# Altium footprint library SMD-POL.PcbLib: 1 footprints
Each footprint in its own frame and in the unit in brackets; x right, y up, seen from the top. Pads: shape width x height; smd on the part's side, far side on the other; paste and mask are expansions set on the pad; w line width, h text height; cw(c..) or ccw(c..) is an arc to the next point about the centre after c.
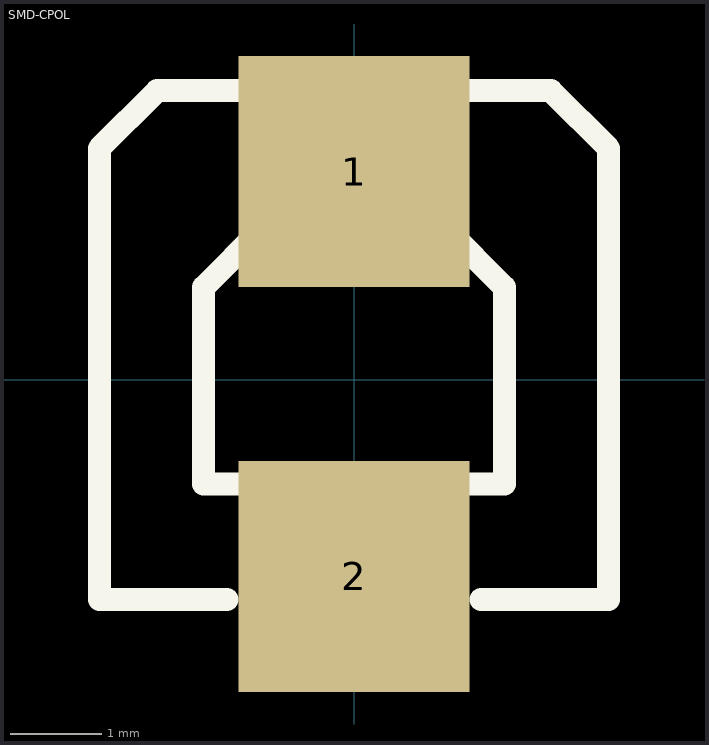
[diagram p0: the footprint, top view; thin cyan lines are the x and y axes]

## SMD-CPOL [mil]
pads (2):
  rect 100x100 smd: 1(0,90) 2(0,-85)
Top Overlay:
  lines w10: -55,-95 -110,-95 -110,100 -85,125 -50,125 ; -10,-45 -65,-45 -65,40 -40,65 -10,65 ; 10,-45 65,-45 65,40 40,65 10,65 ; 50,125 85,125 110,100 110,-95 55,-95